# Altium footprint library Rising Clamp System WR-TBL_3.50 mm.PcbLib: 34 footprints (part 3 of 3)
Each footprint in its own frame and in the unit in brackets; x right, y up, seen from the top. Pads: shape width x height; smd on the part's side, far side on the other; paste and mask are expansions set on the pad; w line width, h text height; cw(c..) or ccw(c..) is an arc to the next point about the centre after c.
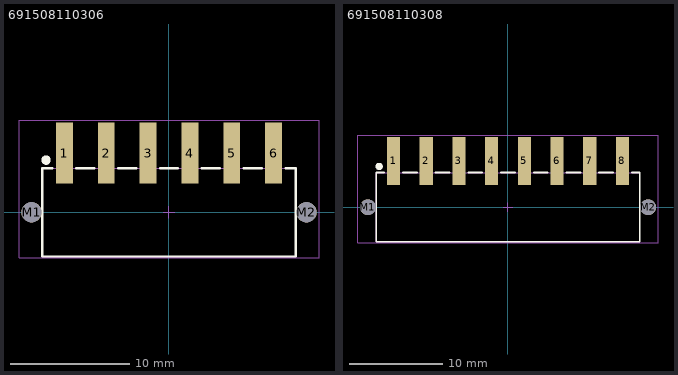
[diagram p2: the footprints below, top view; thin cyan lines are the x and y axes]

## 691508110306 [mm] "WR-TBL Terminal block - serie 5081 3,50mm - SMT - Horizontal entry with rising clamp - 06p"
height 11.2
pads (8):
  rect 1.4x5.1 smd: 1(-8.75,4.95) 2(-5.25,4.95) 3(-1.75,4.95) 4(1.75,4.95) 5(5.25,4.95) 6(8.75,4.95)
  round 1.7 hole 1.7 unplated: M1(-11.5,0) M2(11.5,0)
Top Overlay:
  circle w0.5: c-10.29,4.365 r0.142
  lines w0.2: -9.75,3.7 -10.6,3.7 -10.6,-3.7 10.6,-3.7 10.6,3.7 9.75,3.7 ; -7.75,3.7 -6.25,3.7 ; -4.25,3.7 -2.75,3.7 ; -0.75,3.7 0.75,3.7 ; 2.75,3.7 4.25,3.7 ; 6.25,3.7 7.75,3.7
M13 Assembly Top:
  lines w0.1: -9.225,3.7 -9.225,7.2 -8.275,7.2 -8.275,3.7 ; -5.725,3.7 -5.725,7.2 -4.775,7.2 -4.775,3.7 ; -2.225,3.7 -2.225,7.2 -1.275,7.2 -1.275,3.7 ; 1.275,3.7 1.275,7.2 2.225,7.2 2.225,3.7 ; 4.775,3.7 4.775,7.2 5.725,7.2 5.725,3.7 ; 8.275,3.7 8.275,7.2 9.225,7.2 9.225,3.7 ; -10.6,-3.7 10.6,-3.7 10.6,3.7 -10.6,3.7 -10.6,-3.7
M15 Courtyard Top:
  lines w0.05: -0.5,0 0.5,0 ; 0,-0.5 0,0.5 ; -12.55,-3.8 12.55,-3.8 12.55,7.7 -12.55,7.7 -12.55,-3.8
3D body "691508110306.stp": height 11.25, standoff -1.95, extent -12.175,-3.7 12.175,7.2

## 691508110308 [mm] "WR-TBL Terminal block - serie 5081 3,50mm - SMT - Horizontal entry with rising clamp - 08p"
height 11.2
pads (10):
  rect 1.4x5.1 smd: 1(-12.25,4.95) 2(-8.75,4.95) 3(-5.25,4.95) 4(-1.75,4.95) 5(1.75,4.95) 6(5.25,4.95) 7(8.75,4.95) 8(12.25,4.95)
  round 1.7 hole 1.7 unplated: M1(-15,0) M2(15,0)
Top Overlay:
  circle w0.5: c-13.79,4.365 r0.142
  lines w0.2: -13.25,3.7 -14.1,3.7 -14.1,-3.7 14.1,-3.7 14.1,3.7 13.25,3.7 ; -11.25,3.7 -9.75,3.7 ; -7.75,3.7 -6.25,3.7 ; -4.25,3.7 -2.75,3.7 ; -0.75,3.7 0.75,3.7 ; 2.75,3.7 4.25,3.7 ; 6.25,3.7 7.75,3.7 ; 9.75,3.7 11.25,3.7
M13 Assembly Top:
  lines w0.1: -12.725,3.7 -12.725,7.2 -11.775,7.2 -11.775,3.7 ; -9.225,3.7 -9.225,7.2 -8.275,7.2 -8.275,3.7 ; -5.725,3.7 -5.725,7.2 -4.775,7.2 -4.775,3.7 ; -2.225,3.7 -2.225,7.2 -1.275,7.2 -1.275,3.7 ; 1.275,3.7 1.275,7.2 2.225,7.2 2.225,3.7 ; 4.775,3.7 4.775,7.2 5.725,7.2 5.725,3.7 ; 8.275,3.7 8.275,7.2 9.225,7.2 9.225,3.7 ; 11.775,3.7 11.775,7.2 12.725,7.2 12.725,3.7 ; -14.1,-3.7 -14.1,3.7 14.1,3.7 14.1,-3.7 -14.1,-3.7
M15 Courtyard Top:
  lines w0.05: -0.5,0 0.5,0 ; 0,-0.5 0,0.5 ; -16.05,-3.8 -16.05,7.7 16.05,7.7 16.05,-3.8 -16.05,-3.8
3D body "691508110308.stp": height 11.25, standoff -1.95, extent -15.675,-3.7 15.675,7.2